# Altium integrated library ECS-.320-12.5-13.IntLib: 1 symbol
Pins are listed as number, name and electrical type; pins without a type are passive.

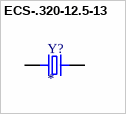
[diagram p0: symbol ECS-.320-12.5-13]

## ECS-.320-12.5-13
designator Y?
Crystal  Cylindrical Can, Radial; MP: ECS-.320-12.5-13; Package: None; Price: None; Availability: Unavailable; Value: *
footprint XTAL_ECS-.655-12.5-13X
pins: 1, 2